# Altium footprint library Microcontrolador.PcbLib: 1 footprints
Each footprint in its own frame and in the unit in brackets; x right, y up, seen from the top. Pads: shape width x height; smd on the part's side, far side on the other; paste and mask are expansions set on the pad; w line width, h text height; cw(c..) or ccw(c..) is an arc to the next point about the centre after c.
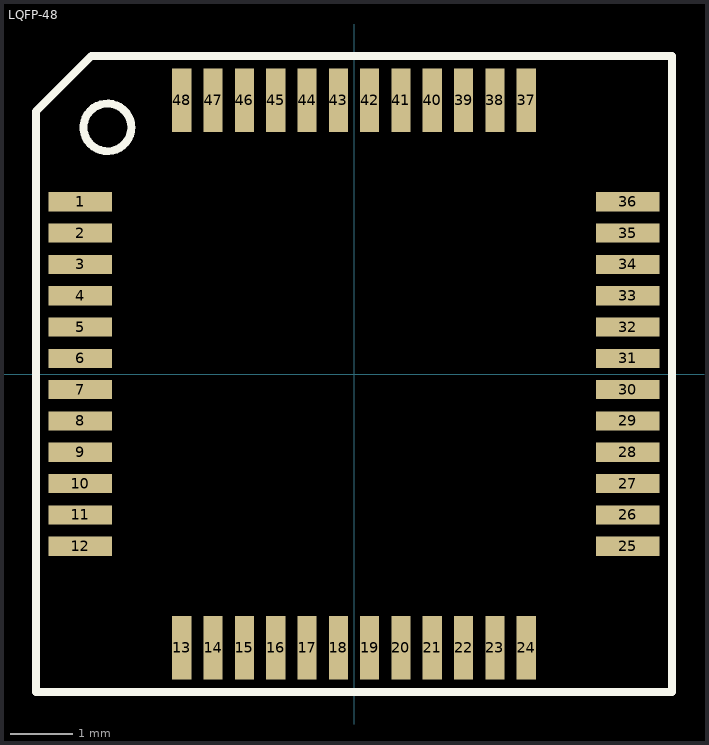
[diagram p0: the footprint, top view; thin cyan lines are the x and y axes]

## LQFP-48 [mil]
pads (48):
  rect 40x12 smd: 1(-172,108.27) 2(-172,88.58) 3(-172,68.9) 4(-172,49.21) 5(-172,29.53) 6(-172,9.84) 7(-172,-9.84) 8(-172,-29.53) 9(-172,-49.21) 10(-172,-68.9) 11(-172,-88.58) 12(-172,-108.27) 25(172,-108.27) 26(172,-88.58) 27(172,-68.9) 28(172,-49.21) 29(172,-29.53) 30(172,-9.84) 31(172,9.84) 32(172,29.53) 33(172,49.21) 34(172,68.9) 35(172,88.58) 36(172,108.27)
  rect 12x40 smd: 13(-108.27,-172) 14(-88.58,-172) 15(-68.9,-172) 16(-49.21,-172) 17(-29.53,-172) 18(-9.84,-172) 19(9.84,-172) 20(29.53,-172) 21(49.21,-172) 22(68.9,-172) 23(88.58,-172) 24(108.27,-172) 37(108.27,172) 38(88.58,172) 39(68.9,172) 40(49.21,172) 41(29.53,172) 42(9.84,172) 43(-9.84,172) 44(-29.53,172) 45(-49.21,172) 46(-68.9,172) 47(-88.58,172) 48(-108.27,172)
Top Overlay:
  circle w5: c-155,155 r15
  lines w5: -200,-200 -200,165 -165,200 200,200 200,-200 -200,-200
3D body "LQFP48-0_5.step": height 61.5, standoff -0.39, extent -172.67,-172.68 172.69,172.69